# Altium footprint library A_Connector.PcbLib: 25 footprints (part 1 of 2)
Each footprint in its own frame and in the unit in brackets; x right, y up, seen from the top. Pads: shape width x height; smd on the part's side, far side on the other; paste and mask are expansions set on the pad; w line width, h text height; cw(c..) or ccw(c..) is an arc to the next point about the centre after c.
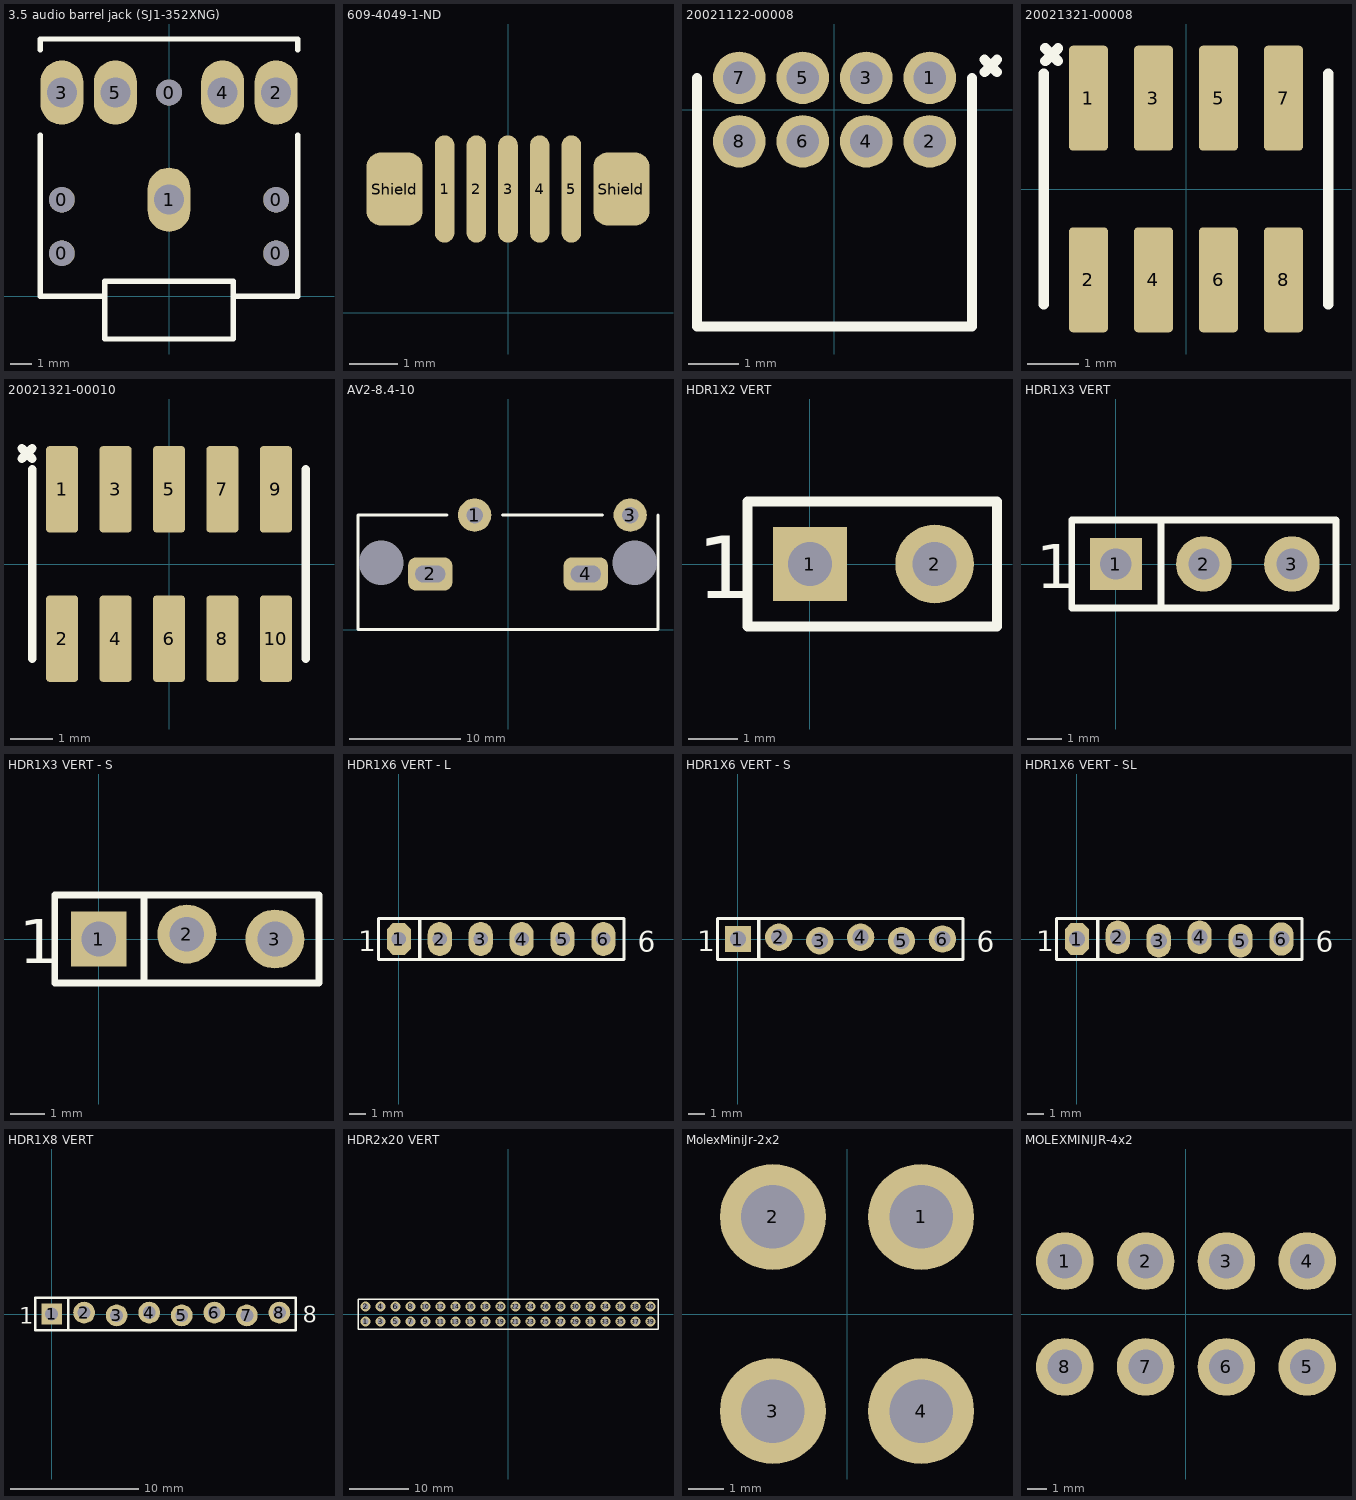
[diagram p0: the footprints below, top view; thin cyan lines are the x and y axes]

## 3.5 audio barrel jack (SJ1-352XNG) [mm]
pads (10):
  round 1.2 hole 1.2 unplated paste+0: 0(-5,2) 0(-5,4.5) 0(0,9.5) 0(5,2) 0(5,4.5)
  oval 2x3 hole 1.4 paste+0: 1(0,4.5) 2(5,9.5) 3(-5,9.5) 4(2.5,9.5) 5(-2.5,9.5)
Top Overlay:
  lines w0.254: -6,7.5 -6,0 -3,0 ; -6,11.5 -6,12 6,12 6,11.5 ; 6,7.5 6,0 3,0 ; -3,0 -3,-2 3,-2 3,0 ; -3,0 -3,0.7 3,0.7 3,0
3D body "sj1-3523ng.stp": height 5.5, standoff -3.3, extent -6,-2.05 6,12

## 609-4049-1-ND [mm] "609-4049-1-ND"
pads (7):
  oval 0.4x2.2 smd: 1(-1.3,2.54) 2(-0.65,2.54) 3(0,2.54) 4(0.65,2.54) 5(1.3,2.54)
  rrect50% 1.15x1.5 smd: Shield(-2.325,2.54) Shield(2.325,2.54)

## 20021122-00008 [mm]
pads (8):
  round 1.05 hole 0.65: 1(1.905,0.635) 2(1.905,-0.635) 3(0.635,0.635) 4(0.635,-0.635) 5(-0.635,0.635) 6(-0.635,-0.635) 7(-1.905,0.635) 8(-1.905,-0.635)
Top Overlay:
  lines w0.203: -2.75,0.635 -2.75,-4.335 -2.25,-4.335 2.75,-4.335 2.75,0.635 ; 3,0.75 3.25,1 ; 3,1 3.25,0.75
3D body "20021112-00008XXLFc.stp": height 3.41, standoff -2.58, extent -2.53,-7.32 2.55,0.85

## 20021321-00008 [mm]
pads (8):
  rrect20% 0.76x2.05 smd: 1(-1.905,1.775) 2(-1.905,-1.775) 3(-0.635,1.775) 4(-0.635,-1.775) 5(0.635,1.775) 6(0.635,-1.775) 7(1.905,1.775) 8(1.905,-1.775)
Top Overlay:
  lines w0.203: -2.775,-2.25 -2.775,2.25 ; -2.75,2.5 -2.5,2.75 ; -2.75,2.75 -2.5,2.5 ; 2.775,-2.25 2.775,2.25
3D body "20021321-1008xxlfc.stp": height 4.5, standoff 0, extent -2.77,-2.25 2.77,2.25

## 20021321-00010 [mm]
pads (10):
  rrect20% 0.76x2.05 smd: 1(-2.54,1.775) 2(-2.54,-1.775) 3(-1.27,1.775) 4(-1.27,-1.775) 5(0,1.775) 6(0,-1.775) 7(1.27,1.775) 8(1.27,-1.775) 9(2.54,1.775) 10(2.54,-1.775)
Top Overlay:
  lines w0.203: -3.5,2.5 -3.25,2.75 ; -3.5,2.75 -3.25,2.5 ; -3.25,-2.25 -3.25,2.25 ; 3.25,-2.25 3.25,2.25
3D body "20021321-1010xxlfc.stp": height 4.49, standoff -0.01, extent -3.405,-2.25 3.405,2.25
3D body: height 0.25, standoff 0, extent 5.25,-3 5.25,-3

## AV2-8.4-10 [mm]
pads (6):
  round 3 hole 1.5: 1(-3,10.3) 3(11,10.3)
  rrect50% 4x3 hole 2.7 slot 1.5 at 90 deg: 2(-7,5) 4(7,5)
  rrect50% 0x0 hole 4 square: 6(-11.4,6) 6(11.4,6)
Top Overlay:
  lines w0.254: -5.5,10.3 -13.5,10.3 -13.5,0 13.5,0 13.5,10.3 ; -0.5,10.3 8.5,10.3

## HDR1X2 VERT [mm] "Connector; Header; 2 Position"
pads (2):
  rect 1.5x1.5 hole 0.9: 1(0,0)
  round 1.6 hole 0.9: 2(2.54,0)
Top Overlay:
  lines w0.2: -1.27,-1.27 3.81,-1.27 3.81,1.27 -1.27,1.27 -1.27,-1.27
  text "1" at -2.3,-0.7 h1.27
3D body "61300211121.stp": height 8.77, standoff -2.77, extent -1.265,-1.27 3.815,1.27

## HDR1X3 VERT [mm] "Connector; Header; 3 Position; Vertical Mount"
pads (3):
  rect 1.5x1.5 hole 0.9: 1(0,0)
  round 1.6 hole 0.9: 2(2.54,0) 3(5.08,0)
Top Overlay:
  lines w0.2: 1.3,-1.27 1.3,1.27 ; -1.27,-1.27 6.35,-1.27 6.35,1.27 -1.27,1.27 -1.27,-1.27
  text "1" at -2.3,-0.7 h1.27
3D body "61300311121.stp": height 8.77, standoff -2.77, extent -1.27,-1.27 6.35,1.27

## HDR1X3 VERT - S [mm] "Connector; Header; 3 Position; Vertical Mount"
pads (3):
  rect 1.6x1.6 hole 1: 1(0,0)
  round 1.7 hole 1: 2(2.54,0.14) 3(5.08,0)
Top Overlay:
  lines w0.2: 1.3,-1.27 1.3,1.27 ; -1.27,-1.27 -1.27,1.27 6.35,1.27 6.35,-1.27 -1.27,-1.27
  text "1" at -2.3,-0.7 h1.27
3D body "61300311121.stp": height 8.77, standoff -2.77, extent -1.27,-1.27 6.35,1.27

## HDR1X6 VERT - L [mm] "Connector; Header; 6 Position; Vertical Mount"
pads (6):
  oct 1.5x2 hole 0.9: 1(0,0)
  oval 1.5x2.1 hole 0.9: 2(2.54,0) 3(5.08,0) 4(7.62,0) 5(10.16,0) 6(12.7,0)
Top Overlay:
  lines w0.2: 1.3,-1.27 1.3,1.27 ; -1.27,-1.27 13.97,-1.27 13.97,1.27 -1.27,1.27 -1.27,-1.27
  text "6" at 14.82,-0.8 h1.27
  text "1" at -2.54,-0.762 h1.27
3D body "61300611121.stp": height 8.77, standoff -2.77, extent -1.245,-1.295 13.995,1.245

## HDR1X6 VERT - S [mm] "Connector; Header; 6 Position; Vertical Mount"
pads (6):
  rect 1.6x1.6 hole 1: 1(0,0)
  round 1.7 hole 1: 2(2.54,0.11) 3(5.08,-0.11) 4(7.62,0.11) 5(10.16,-0.11) 6(12.7,0)
Top Overlay:
  lines w0.2: 1.3,-1.27 1.3,1.27 ; -1.27,-1.27 -1.27,1.27 13.97,1.27 13.97,-1.27 -1.27,-1.27
  text "1" at -2.54,-0.762 h1.27
  text "6" at 14.82,-0.8 h1.27
3D body "61300611121.stp": height 8.77, standoff -2.77, extent -1.245,-1.295 13.995,1.245

## HDR1X6 VERT - SL [mm] "Connector; Header; 6 Position; Vertical Mount"
pads (6):
  oct 1.5x2 hole 1: 1(0,0)
  oval 1.5x2.07 hole 1: 2(2.54,0.11) 3(5.08,-0.11) 4(7.62,0.11) 5(10.16,-0.11) 6(12.7,0)
Top Overlay:
  lines w0.2: 1.3,-1.27 1.3,1.27 ; -1.27,-1.27 13.97,-1.27 13.97,1.27 -1.27,1.27 -1.27,-1.27
  text "6" at 14.82,-0.8 h1.27
  text "1" at -2.54,-0.762 h1.27
3D body "61300611121.stp": height 8.77, standoff -2.77, extent -1.245,-1.295 13.995,1.245

## HDR1X8 VERT [mm] "Connector; Header; 6 Position; Vertical Mount"
pads (8):
  rect 1.6x1.6 hole 1: 1(0,0)
  round 1.7 hole 1: 2(2.54,0.11) 3(5.08,-0.11) 4(7.62,0.11) 5(10.16,-0.11) 6(12.7,0.11) 7(15.24,-0.11) 8(17.78,0.11)
Top Overlay:
  lines w0.2: 1.3,-1.27 1.3,1.27 ; -1.27,-1.27 -1.27,1.27 19.05,1.27 19.05,-1.27 -1.27,-1.27
  text "1" at -2.54,-0.762 h1.27
  text "8" at 19.6,-0.7 h1.27
3D body "61300611121.stp": height 8.77, standoff -2.77, extent -1.245,-1.295 13.995,1.245

## HDR2x20 VERT [mm]
pads (40):
  round 1.7 hole 1: 1(-24.13,-1.27) 2(-24.13,1.27) 3(-21.59,-1.27) 4(-21.59,1.27) 5(-19.05,-1.27) 6(-19.05,1.27) 7(-16.51,-1.27) 8(-16.51,1.27) 9(-13.97,-1.27) 10(-13.97,1.27) 11(-11.43,-1.27) 12(-11.43,1.27) 13(-8.89,-1.27) 14(-8.89,1.27) 15(-6.35,-1.27) 16(-6.35,1.27) 17(-3.81,-1.27) 18(-3.81,1.27) 19(-1.27,-1.27) 20(-1.27,1.27) 21(1.27,-1.27) 22(1.27,1.27) 23(3.81,-1.27) 24(3.81,1.27) 25(6.35,-1.27) 26(6.35,1.27) 27(8.89,-1.27) 28(8.89,1.27) 29(11.43,-1.27) 30(11.43,1.27) 31(13.97,-1.27) 32(13.97,1.27) 33(16.51,-1.27) 34(16.51,1.27) 35(19.05,-1.27) 36(19.05,1.27) 37(21.59,-1.27) 38(21.59,1.27) 39(24.13,-1.27) 40(24.13,1.27)
Top Overlay:
  lines w0.254: -25.4,-2.54 25.4,-2.54 25.4,2.54 -25.4,2.54 -25.4,-2.54

## MolexMiniJr-2x2 [mm]
pads (4):
  round 3 hole 1.8: 1(2.1,2.75) 2(-2.1,2.75) 3(-2.1,-2.75) 4(2.1,-2.75)
3D body "353180420.stp": height 11.5, standoff -3.9, extent -4.75,-16.685 5.25,3.25

## MOLEXMINIJR-4x2 [mm]
pads (8):
  round 3 hole 1.8: 1(-6.3,2.75) 2(-2.1,2.75) 3(2.1,2.75) 4(6.3,2.75) 5(6.3,-2.75) 6(2.1,-2.75) 7(-2.1,-2.75) 8(-6.3,-2.75)
3D body "353180820.stp": height 11.5, standoff -3.9, extent -9,-16.65 9.4,3.285